# Altium footprint library K71.PcbLib: 32 footprints (part 1 of 2)
Each footprint in its own frame and in the unit in brackets; x right, y up, seen from the top. Pads: shape width x height; smd on the part's side, far side on the other; paste and mask are expansions set on the pad; w line width, h text height; cw(c..) or ccw(c..) is an arc to the next point about the centre after c.
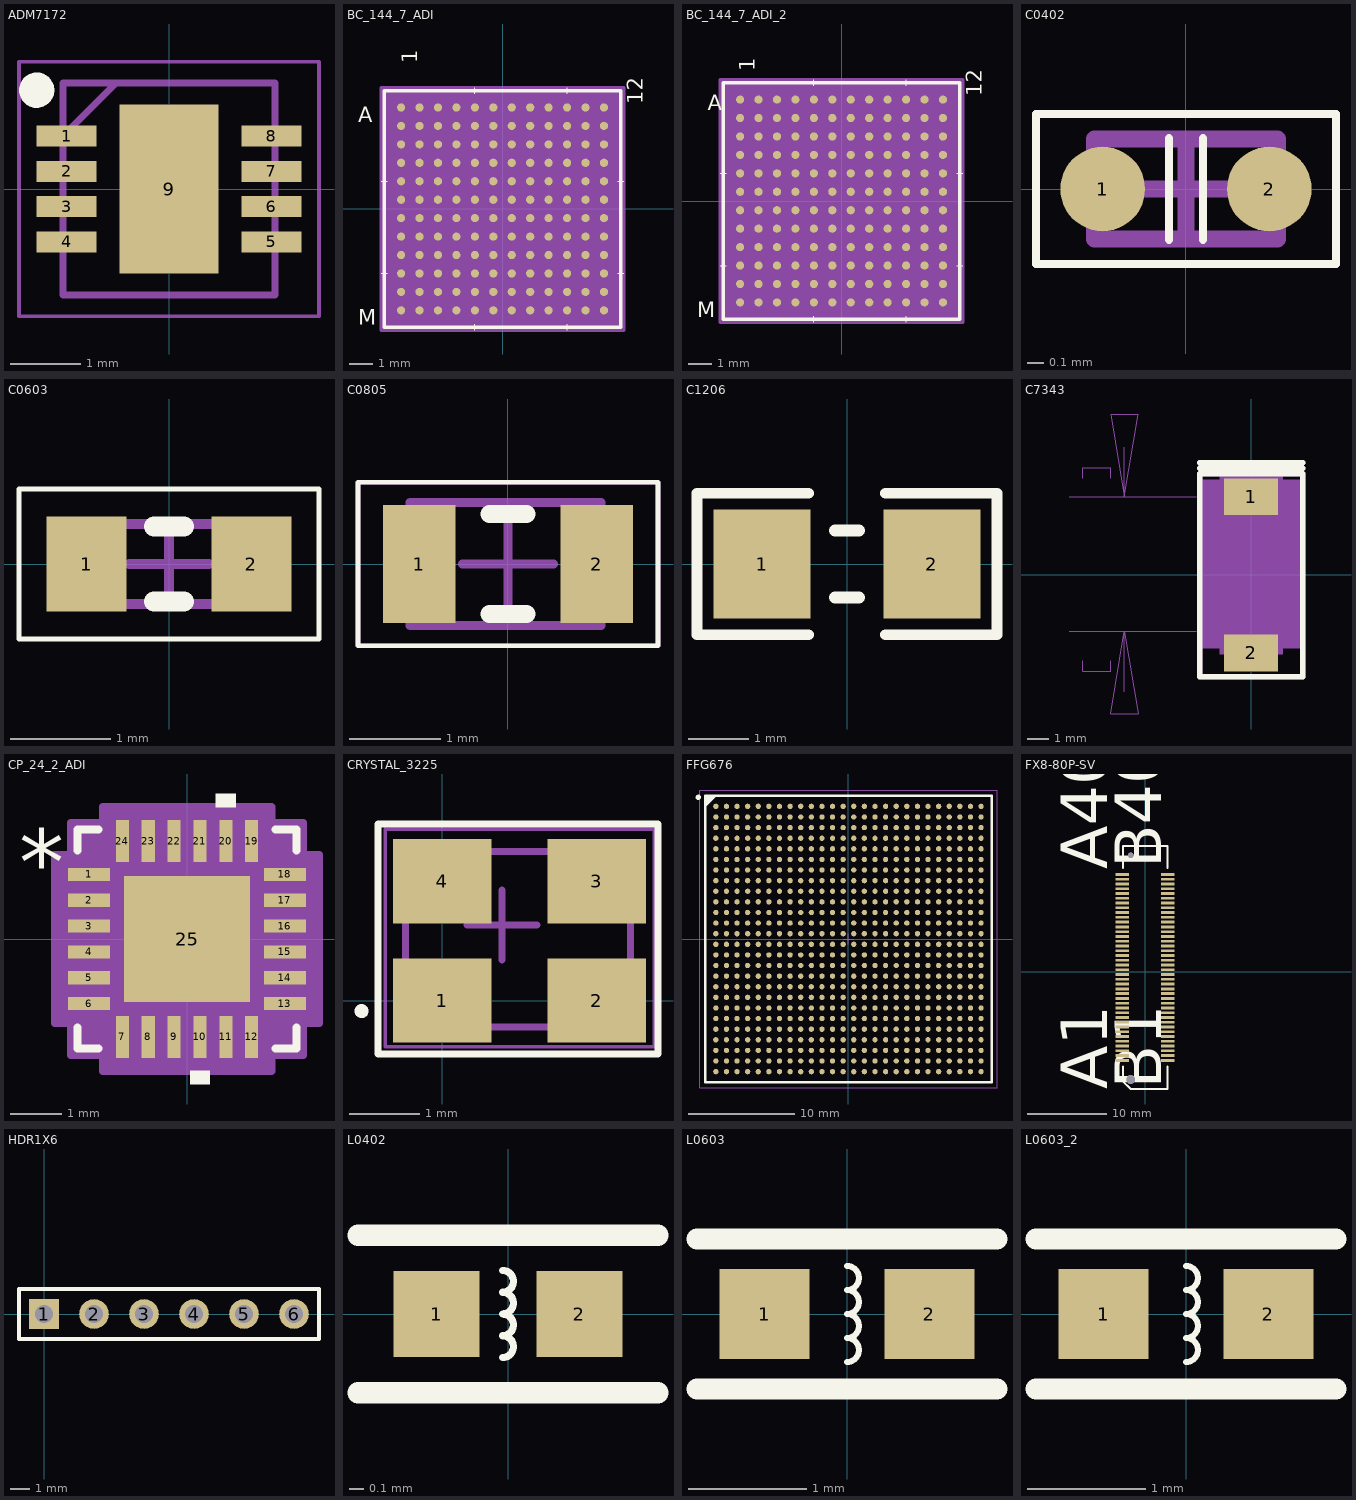
[diagram p0: the footprints below, top view; thin cyan lines are the x and y axes]

## ADM7172 [mm]
pads (9):
  rect 0.85x0.3 smd: 1(-1.45,0.75) 2(-1.45,0.25) 3(-1.45,-0.25) 4(-1.45,-0.75) 5(1.45,-0.75) 6(1.45,-0.25) 7(1.45,0.25) 8(1.45,0.75)
  rect 1.4x2.4 smd: 9(0,0)
Top Overlay:
  circle w0.25: c-1.875,1.4 r0.125
Mechanical 13:
  lines w0.1: -1.5,0.75 -0.75,1.5 ; -1.5,-1.5 -1.5,1.5 1.5,1.5 1.5,-1.5 -1.5,-1.5
Mechanical 15:
  lines w0.05: -2.125,-1.8 -2.125,1.8 2.125,1.8 2.125,-1.8 -2.125,-1.8
3D body "ADM7172ACPZ-3.3-R7.stp": height 0.8, standoff 0, extent -1.55,-1.5 1.55,1.5

## BC_144_7_ADI [mm]
pads (144):
  round 0.356 smd: A1(-4.4,4.4) A2(-3.6,4.4) A3(-2.8,4.4) A4(-2,4.4) A5(-1.2,4.4) A6(-0.4,4.4) A7(0.4,4.4) A8(1.2,4.4) A9(2,4.4) A10(2.8,4.4) A11(3.6,4.4) A12(4.4,4.4) B1(-4.4,3.6) B2(-3.6,3.6) B3(-2.8,3.6) B4(-2,3.6) B5(-1.2,3.6) B6(-0.4,3.6) B7(0.4,3.6) B8(1.2,3.6) B9(2,3.6) B10(2.8,3.6) B11(3.6,3.6) B12(4.4,3.6) C1(-4.4,2.8) C2(-3.6,2.8) C3(-2.8,2.8) C4(-2,2.8) C5(-1.2,2.8) C6(-0.4,2.8) C7(0.4,2.8) C8(1.2,2.8) C9(2,2.8) C10(2.8,2.8) C11(3.6,2.8) C12(4.4,2.8) D1(-4.4,2) D2(-3.6,2) D3(-2.8,2) D4(-2,2) D5(-1.2,2) D6(-0.4,2) D7(0.4,2) D8(1.2,2) D9(2,2) D10(2.8,2) D11(3.6,2) D12(4.4,2) E1(-4.4,1.2) E2(-3.6,1.2) E3(-2.8,1.2) E4(-2,1.2) E5(-1.2,1.2) E6(-0.4,1.2) E7(0.4,1.2) E8(1.2,1.2) E9(2,1.2) E10(2.8,1.2) E11(3.6,1.2) E12(4.4,1.2) F1(-4.4,0.4) F2(-3.6,0.4) F3(-2.8,0.4) F4(-2,0.4) F5(-1.2,0.4) F6(-0.4,0.4) F7(0.4,0.4) F8(1.2,0.4) F9(2,0.4) F10(2.8,0.4) F11(3.6,0.4) F12(4.4,0.4) G1(-4.4,-0.4) G2(-3.6,-0.4) G3(-2.8,-0.4) G4(-2,-0.4) G5(-1.2,-0.4) G6(-0.4,-0.4) G7(0.4,-0.4) G8(1.2,-0.4) G9(2,-0.4) G10(2.8,-0.4) G11(3.6,-0.4) G12(4.4,-0.4) H1(-4.4,-1.2) H2(-3.6,-1.2) H3(-2.8,-1.2) H4(-2,-1.2) H5(-1.2,-1.2) H6(-0.4,-1.2) H7(0.4,-1.2) H8(1.2,-1.2) H9(2,-1.2) H10(2.8,-1.2) H11(3.6,-1.2) H12(4.4,-1.2) J1(-4.4,-2) J2(-3.6,-2) J3(-2.8,-2) J4(-2,-2) J5(-1.2,-2) J6(-0.4,-2) J7(0.4,-2) J8(1.2,-2) J9(2,-2) J10(2.8,-2) J11(3.6,-2) J12(4.4,-2) K1(-4.4,-2.8) K2(-3.6,-2.8) K3(-2.8,-2.8) K4(-2,-2.8) K5(-1.2,-2.8) K6(-0.4,-2.8) K7(0.4,-2.8) K8(1.2,-2.8) K9(2,-2.8) K10(2.8,-2.8) K11(3.6,-2.8) K12(4.4,-2.8) L1(-4.4,-3.6) L2(-3.6,-3.6) L3(-2.8,-3.6) L4(-2,-3.6) L5(-1.2,-3.6) L6(-0.4,-3.6) L7(0.4,-3.6) L8(1.2,-3.6) L9(2,-3.6) L10(2.8,-3.6) L11(3.6,-3.6) L12(4.4,-3.6) M1(-4.4,-4.4) M2(-3.6,-4.4) M3(-2.8,-4.4) M4(-2,-4.4) M5(-1.2,-4.4) M6(-0.4,-4.4) M7(0.4,-4.4) M8(1.2,-4.4) M9(2,-4.4) M10(2.8,-4.4) M11(3.6,-4.4) M12(4.4,-4.4)
Top Overlay:
  lines w0.025: -5.254,-2.8 -5,-2.8 ; -5.254,1.2 -5,1.2 ; -1.2,-5.254 -1.2,-5 ; -1.2,5 -1.2,5.254 ; 2.8,-5.254 2.8,-5 ; 2.8,5 2.8,5.254 ; 5,-2.8 5.254,-2.8 ; 5,1.2 5.254,1.2
  lines w0.152: -5.127,-5.127 5.127,-5.127 5.127,5.127 -5.127,5.127 -5.127,-5.127
  text "A" at -6.27,3.765 h0.66
  text "M" at -6.27,-5.035 h0.66
  text "1" at -3.697,6.322 h0.66
  text "12" at 6.084,4.539 h0.66
Bottom Overlay:
  text "A" at -5.635,3.765 h0.66
  text "M" at -5.635,-5.035 h0.66
  text "1" at -5.035,5.635 h0.66
  text "12" at 4.981,5.722 h0.66
Mechanical 13:
  lines w0.025: -5,4.6 -4.6,5 ; -5,-5 5,-5 5,5 -5,5 -5,-5
  text "A" at -6.27,3.765 h0.66
  text "M" at -6.27,-5.035 h0.66
  text "1" at -3.765,5.635 h0.66
  text "12" at 5.035,5.635 h0.66
Mechanical 15:
  region: 5.254,-5.254 -5.254,-5.254 -5.254,5.254 5.254,5.254
  lines w0.152: -5.254,-5.254 -5.254,5.254 5.254,5.254 5.254,-5.254 -5.254,-5.254
3D body "BC_144_7_ADI.step": height 1.7, standoff 0, extent -5,-5 5,5

## BC_144_7_ADI_2 [mm]
pads (144):
  round 0.356 smd: A1(-4.4,4.4) A2(-3.6,4.4) A3(-2.8,4.4) A4(-2,4.4) A5(-1.2,4.4) A6(-0.4,4.4) A7(0.4,4.4) A8(1.2,4.4) A9(2,4.4) A10(2.8,4.4) A11(3.6,4.4) A12(4.4,4.4) B1(-4.4,3.6) B2(-3.6,3.6) B3(-2.8,3.6) B4(-2,3.6) B5(-1.2,3.6) B6(-0.4,3.6) B7(0.4,3.6) B8(1.2,3.6) B9(2,3.6) B10(2.8,3.6) B11(3.6,3.6) B12(4.4,3.6) C1(-4.4,2.8) C2(-3.6,2.8) C3(-2.8,2.8) C4(-2,2.8) C5(-1.2,2.8) C6(-0.4,2.8) C7(0.4,2.8) C8(1.2,2.8) C9(2,2.8) C10(2.8,2.8) C11(3.6,2.8) C12(4.4,2.8) D1(-4.4,2) D2(-3.6,2) D3(-2.8,2) D4(-2,2) D5(-1.2,2) D6(-0.4,2) D7(0.4,2) D8(1.2,2) D9(2,2) D10(2.8,2) D11(3.6,2) D12(4.4,2) E1(-4.4,1.2) E2(-3.6,1.2) E3(-2.8,1.2) E4(-2,1.2) E5(-1.2,1.2) E6(-0.4,1.2) E7(0.4,1.2) E8(1.2,1.2) E9(2,1.2) E10(2.8,1.2) E11(3.6,1.2) E12(4.4,1.2) F1(-4.4,0.4) F2(-3.6,0.4) F3(-2.8,0.4) F4(-2,0.4) F5(-1.2,0.4) F6(-0.4,0.4) F7(0.4,0.4) F8(1.2,0.4) F9(2,0.4) F10(2.8,0.4) F11(3.6,0.4) F12(4.4,0.4) G1(-4.4,-0.4) G2(-3.6,-0.4) G3(-2.8,-0.4) G4(-2,-0.4) G5(-1.2,-0.4) G6(-0.4,-0.4) G7(0.4,-0.4) G8(1.2,-0.4) G9(2,-0.4) G10(2.8,-0.4) G11(3.6,-0.4) G12(4.4,-0.4) H1(-4.4,-1.2) H2(-3.6,-1.2) H3(-2.8,-1.2) H4(-2,-1.2) H5(-1.2,-1.2) H6(-0.4,-1.2) H7(0.4,-1.2) H8(1.2,-1.2) H9(2,-1.2) H10(2.8,-1.2) H11(3.6,-1.2) H12(4.4,-1.2) J1(-4.4,-2) J2(-3.6,-2) J3(-2.8,-2) J4(-2,-2) J5(-1.2,-2) J6(-0.4,-2) J7(0.4,-2) J8(1.2,-2) J9(2,-2) J10(2.8,-2) J11(3.6,-2) J12(4.4,-2) K1(-4.4,-2.8) K2(-3.6,-2.8) K3(-2.8,-2.8) K4(-2,-2.8) K5(-1.2,-2.8) K6(-0.4,-2.8) K7(0.4,-2.8) K8(1.2,-2.8) K9(2,-2.8) K10(2.8,-2.8) K11(3.6,-2.8) K12(4.4,-2.8) L1(-4.4,-3.6) L2(-3.6,-3.6) L3(-2.8,-3.6) L4(-2,-3.6) L5(-1.2,-3.6) L6(-0.4,-3.6) L7(0.4,-3.6) L8(1.2,-3.6) L9(2,-3.6) L10(2.8,-3.6) L11(3.6,-3.6) L12(4.4,-3.6) M1(-4.4,-4.4) M2(-3.6,-4.4) M3(-2.8,-4.4) M4(-2,-4.4) M5(-1.2,-4.4) M6(-0.4,-4.4) M7(0.4,-4.4) M8(1.2,-4.4) M9(2,-4.4) M10(2.8,-4.4) M11(3.6,-4.4) M12(4.4,-4.4)
Top Overlay:
  lines w0.025: -5.254,-2.8 -5,-2.8 ; -5.254,1.2 -5,1.2 ; -1.2,-5.254 -1.2,-5 ; -1.2,5 -1.2,5.254 ; 2.8,-5.254 2.8,-5 ; 2.8,5 2.8,5.254 ; 5,-2.8 5.254,-2.8 ; 5,1.2 5.254,1.2
  lines w0.152: -5.127,-5.127 -5.127,5.127 5.127,5.127 5.127,-5.127 -5.127,-5.127
  text "12" at 6.084,4.539 h0.66
  text "1" at -3.765,5.635 h0.66
  text "M" at -6.27,-5.035 h0.66
  text "A" at -5.814,3.937 h0.66
Bottom Overlay:
  text "12" at 4.981,5.722 h0.66
  text "1" at -5.035,5.635 h0.66
  text "M" at -5.635,-5.035 h0.66
  text "A" at -5.635,3.765 h0.66
Mechanical 13:
  lines w0.025: -5,4.6 -4.6,5 ; -5,-5 -5,5 5,5 5,-5 -5,-5
  text "12" at 5.035,5.635 h0.66
  text "1" at -3.765,5.635 h0.66
  text "M" at -6.27,-5.035 h0.66
  text "A" at -6.27,3.765 h0.66
Mechanical 15:
  region: 5.254,-5.254 -5.254,-5.254 -5.254,5.254 5.254,5.254
  lines w0.152: -5.254,-5.254 5.254,-5.254 5.254,5.254 -5.254,5.254 -5.254,-5.254
3D body "BC_144_7_ADI.step": height 1.7, standoff 0, extent -5,-5 5,5

## C0402 [mil]
height 11.81
pads (2):
  round 20 smd: 1(-19.68,0) 2(19.68,0)
Top Overlay:
  lines w1.97: -4,-12 -4,0 -4,12 ; 4,-12 4,0 4,12 ; -35.43,-17.72 -35.43,17.72 35.43,17.72 35.43,-17.72 -35.43,-17.72
Mechanical 13:
  lines w3.94: -21.65,-11.81 21.65,-11.81 21.65,11.81 -21.65,11.81 -21.65,-11.81
Mechanical 15:
  lines w1.97: -35.43,-17.72 -35.43,17.72 35.43,17.72 35.43,-17.72 -35.43,-17.72
  lines w3.94: -9.84,0 9.84,0 ; 0,-9.84 0,9.84
3D body "C 0402.STEP": height 20.68, standoff 0.21, extent -19.68,-10.23 19.69,10.24

## C0603 [mm]
height 1.2
pads (2):
  rect 0.8x0.95 smd: 1(-0.825,0) 2(0.825,0)
Top Overlay:
  lines w0.05: -1.5,-0.75 1.5,-0.75 1.5,0.75 -1.5,0.75 -1.5,-0.75
  lines w0.2: -0.152,-0.375 0.152,-0.375 ; -0.152,0.375 0.152,0.375
Mechanical 13:
  lines w0.1: -0.8,-0.4 0.8,-0.4 0.8,0.4 -0.8,0.4 -0.8,-0.4
Mechanical 15:
  lines w0.1: -0.4,0 0.4,0 ; 0,-0.4 0,0.4
3D body "C 0603.STEP": height 0.81, standoff -0.01, extent -0.8,-0.41 0.8,0.41

## C0805 [mm]
height 0.5
pads (2):
  rect 0.8x1.3 smd: 1(-0.975,0) 2(0.975,0)
Top Overlay:
  lines w0.05: -1.65,-0.9 -1.65,0.9 1.65,0.9 1.65,-0.9 -1.65,-0.9
  lines w0.2: -0.2,-0.55 0.2,-0.55 ; -0.2,0.55 0.2,0.55
Mechanical 13:
  lines w0.1: -1.075,-0.675 1.025,-0.675 1.025,0.675 -1.075,0.675 -1.075,-0.675
Mechanical 15:
  lines w0.05: -1.65,-0.9 -1.65,0.9 1.65,0.9 1.65,-0.9 -1.65,-0.9
  lines w0.1: -0.5,0 0.5,0 ; 0,-0.5 0,0.5
3D body "C 0805.STEP": height 0.51, standoff -0.01, extent -1,-0.61 1,0.61

## C1206 [mm]
pads (2):
  rect 1.6x1.8 smd: 1(-1.4,0) 2(1.4,0)
Top Overlay:
  lines w0.178: -0.635,-1.168 -2.476,-1.168 -2.476,1.168 -0.635,1.168 ; 0.635,-1.168 2.476,-1.168 2.476,1.168 0.635,1.168
  lines w0.2: -0.2,-0.55 0.2,-0.55 ; -0.2,0.55 0.2,0.55
Mechanical 14:
  text "1" at -1.404,0 h0.64
  text "2" at 1.596,0 h0.64
3D body "C 1206.STEP": height 1.21, standoff -0.01, extent -1.6,-0.81 1.6,0.81

## C7343 [mil] "C7343"
pads (2):
  rect 98x67 smd: 1(0,141.66) 2(0,-141.66)
Top Overlay:
  lines w9.84: -93.58,-143.79 -93.58,-184.38 93.58,-184.38 93.58,-143.79
  lines w10: -93.58,-143.79 -93.58,183.16 ; -93.58,193.16 93.58,193.16 ; -93.58,203.16 93.58,203.16 ; 93.58,-143.79 93.58,183.16 ; -93.58,183.16 93.58,183.16 ; -93.58,183.16 93.58,183.16
Mechanical 5:
  lines w9.84: -93.58,-143.79 -93.58,-184.38 93.58,-184.38 93.58,-143.79
  lines w10: -93.58,-143.79 -93.58,183.16 ; -93.58,193.16 93.58,193.16 ; -93.58,203.16 93.58,203.16 ; 93.58,-143.79 93.58,183.16 ; -93.58,183.16 93.58,183.16 ; -93.58,183.16 93.58,183.16
  text "CT1" at -30,229.16 h25
Mechanical 13:
  lines w1: -330,-102.3 -100,-102.3 ; -330,141.66 -100,141.66 ; -305,-155.81 -305,-174.81 -255,-174.81 -255,-155.81 ; -305,175.19 -305,194.19 -255,194.19 -255,175.19 ; -230,-212.31 -230,-102.3 ; -230,231.69 -230,141.66 ; -230,-102.3 -255,-252.29 -205,-252.29 -230,-102.3 ; -230,141.66 -205,291.67 -255,291.67 -230,141.66
  text "6.2" at -205,79.69 h25
  text "243.97" at -305,156.19 h25
Mechanical 14:
  text "2" at -10,-141.66 h25
  text "1" at -10,141.66 h25
Mechanical 16:
  region: -88.58,167.32 -88.58,-127.95 88.58,-127.95 88.58,167.32
  pour cut-out: 57,183.16 57,172.32 93.58,172.32 93.58,-132.96 57,-132.96 57,-143.79 -57,-143.79 -57,-132.96 -93.58,-132.96 -93.58,172.32 -57,172.32 -57,183.16
  lines w1: -88.58,-127.95 88.58,-127.95 88.58,167.32 -88.58,167.32 -88.58,-127.95
Mechanical 17:
  text ".Designator" at -30,3.02 h25
3D body: height 150, standoff 0, extent -88.58,-127.95 88.58,167.32

## CP_24_2_ADI [mil]
pads (25):
  rect 32x10 smd paste+0 mask+0: 1(-74.5,49.21) 2(-74.5,29.53) 3(-74.5,9.84) 4(-74.5,-9.84) 5(-74.5,-29.53) 6(-74.5,-49.21) 13(74.5,-49.21) 14(74.5,-29.53) 15(74.5,-9.84) 16(74.5,9.84) 17(74.5,29.53) 18(74.5,49.21)
  rect 10x32 smd paste+0 mask+0: 7(-49.21,-74.5) 8(-29.53,-74.5) 9(-9.84,-74.5) 10(9.84,-74.5) 11(29.53,-74.5) 12(49.21,-74.5) 19(49.21,74.5) 20(29.53,74.5) 21(9.84,74.5) 22(-9.84,74.5) 23(-29.53,74.5) 24(-49.21,74.5)
  rect 96x96 smd paste+0 mask+0: 25(0,0)
Top Overlay:
  region: 17.34,-100.5 2.34,-100.5 2.34,-110.5 17.34,-110.5
  region: 37.03,100.5 22.03,100.5 22.03,110.5 37.03,110.5
  lines w6: -83.5,-67.31 -83.5,-83.5 -67.31,-83.5 ; -83.5,67.31 -83.5,83.5 -67.31,83.5 ; 67.31,-83.5 83.5,-83.5 83.5,-67.31 ; 67.31,83.5 83.5,83.5 83.5,67.31
  text "*" at -128,34.06 h50
Mechanical 13:
  lines w1: -78.5,28.5 -28.5,78.5 ; -78.5,-78.5 78.5,-78.5 78.5,78.5 -78.5,78.5 -78.5,-78.5 ; -78.5,-55.21 -78.5,-43.21 -78.5,-55.21 ; -78.5,-35.53 -78.5,-23.53 -78.5,-35.53 ; -78.5,-15.84 -78.5,-3.84 -78.5,-15.84 ; -78.5,3.84 -78.5,15.84 -78.5,3.84 ; -78.5,23.53 -78.5,35.53 -78.5,23.53 ; -78.5,43.21 -78.5,55.21 -78.5,43.21 ; -55.21,-78.5 -43.21,-78.5 -55.21,-78.5 ; -55.21,78.5 -43.21,78.5 -55.21,78.5 ; -35.53,-78.5 -23.53,-78.5 -35.53,-78.5 ; -35.53,78.5 -23.53,78.5 -35.53,78.5 ; -15.84,-78.5 -3.84,-78.5 -15.84,-78.5 ; -15.84,78.5 -3.84,78.5 -15.84,78.5 ; 3.84,-78.5 15.84,-78.5 3.84,-78.5 ; 3.84,78.5 15.84,78.5 3.84,78.5 ; 23.53,-78.5 35.53,-78.5 23.53,-78.5 ; 23.53,78.5 35.53,78.5 23.53,78.5 ; 43.21,-78.5 55.21,-78.5 43.21,-78.5 ; 43.21,78.5 55.21,78.5 43.21,78.5 ; 78.5,-55.21 78.5,-43.21 78.5,-55.21 ; 78.5,-35.53 78.5,-23.53 78.5,-35.53 ; 78.5,-15.84 78.5,-3.84 78.5,-15.84 ; 78.5,3.84 78.5,15.84 78.5,3.84 ; 78.5,23.53 78.5,35.53 78.5,23.53 ; 78.5,43.21 78.5,55.21 78.5,43.21
  text "*" at -71,34.06 h50
Mechanical 15:
  region: -64.21,-88.5 -88.5,-88.5 -88.5,-64.21 -100.5,-64.21 -100.5,64.21 -88.5,64.21 -88.5,88.5 -64.21,88.5 -64.21,100.5 64.21,100.5 64.21,88.5 88.5,88.5 88.5,64.21 100.5,64.21 100.5,-64.21 88.5,-64.21 88.5,-88.5 64.21,-88.5 64.21,-100.5 -64.21,-100.5
  lines w6: -100.5,-64.21 -88.5,-64.21 -88.5,-88.5 -64.21,-88.5 -64.21,-100.5 64.21,-100.5 64.21,-88.5 88.5,-88.5 88.5,-64.21 100.5,-64.21 100.5,64.21 88.5,64.21 88.5,88.5 64.21,88.5 64.21,100.5 -64.21,100.5 -64.21,88.5 -88.5,88.5 -88.5,64.21 -100.5,64.21 -100.5,-64.21
3D body "CP_24_2_ADI.step": height 39.09, standoff 0, extent -78.5,-78.5 78.5,78.5

## CRYSTAL_3225 [mm]
pads (4):
  rect 1.4x1.2 smd: 1(0,0) 2(2.2,0) 3(2.2,1.7) 4(0,1.7)
Top Overlay:
  circle w0.1: c-1.15,-0.15 r0.05
  lines w0.1: -0.914,-0.762 3.073,-0.762 3.073,2.515 -0.914,2.515 -0.914,-0.762
Mechanical 13:
  lines w0.1: -0.521,-0.379 -0.521,2.121 2.679,2.121 2.679,-0.379 -0.521,-0.379
Mechanical 15:
  lines w0.05: -0.813,-0.66 -0.813,2.438 3.023,2.438 3.023,-0.66 -0.813,-0.66
  lines w0.1: 0.35,1.075 1.35,1.075 ; 0.85,0.575 0.85,1.575
3D body: height 0.7, standoff 0.1, extent -0.508,-0.412 2.692,2.088

## FFG676 [mm] "BGA, 676-Balls, Body 27x27mm, Pitch 1.0mm"
height 3.37
pads (676):
  round 0.5 smd: A1(-12.5,12.5) A2(-11.5,12.5) A3(-10.5,12.5) A4(-9.5,12.5) A5(-8.5,12.5) A6(-7.5,12.5) A7(-6.5,12.5) A8(-5.5,12.5) A9(-4.5,12.5) A10(-3.5,12.5) A11(-2.5,12.5) A12(-1.5,12.5) A13(-0.5,12.5) A14(0.5,12.5) A15(1.5,12.5) A16(2.5,12.5) A17(3.5,12.5) A18(4.5,12.5) A19(5.5,12.5) A20(6.5,12.5) A21(7.5,12.5) A22(8.5,12.5) A23(9.5,12.5) A24(10.5,12.5) A25(11.5,12.5) A26(12.5,12.5) AA1(-12.5,-7.5) AA2(-11.5,-7.5) AA3(-10.5,-7.5) AA4(-9.5,-7.5) AA5(-8.5,-7.5) AA6(-7.5,-7.5) AA7(-6.5,-7.5) AA8(-5.5,-7.5) AA9(-4.5,-7.5) AA10(-3.5,-7.5) AA11(-2.5,-7.5) AA12(-1.5,-7.5) AA13(-0.5,-7.5) AA14(0.5,-7.5) AA15(1.5,-7.5) AA16(2.5,-7.5) AA17(3.5,-7.5) AA18(4.5,-7.5) AA19(5.5,-7.5) AA20(6.5,-7.5) AA21(7.5,-7.5) AA22(8.5,-7.5) AA23(9.5,-7.5) AA24(10.5,-7.5) AA25(11.5,-7.5) AA26(12.5,-7.5) AB1(-12.5,-8.5) AB2(-11.5,-8.5) AB3(-10.5,-8.5) AB4(-9.5,-8.5) AB5(-8.5,-8.5) AB6(-7.5,-8.5) AB7(-6.5,-8.5) AB8(-5.5,-8.5) AB9(-4.5,-8.5) AB10(-3.5,-8.5) AB11(-2.5,-8.5) AB12(-1.5,-8.5) AB13(-0.5,-8.5) AB14(0.5,-8.5) AB15(1.5,-8.5) AB16(2.5,-8.5) AB17(3.5,-8.5) AB18(4.5,-8.5) AB19(5.5,-8.5) AB20(6.5,-8.5) AB21(7.5,-8.5) AB22(8.5,-8.5) AB23(9.5,-8.5) AB24(10.5,-8.5) AB25(11.5,-8.5) AB26(12.5,-8.5) AC1(-12.5,-9.5) AC2(-11.5,-9.5) AC3(-10.5,-9.5) AC4(-9.5,-9.5) AC5(-8.5,-9.5) AC6(-7.5,-9.5) AC7(-6.5,-9.5) AC8(-5.5,-9.5) AC9(-4.5,-9.5) AC10(-3.5,-9.5) AC11(-2.5,-9.5) AC12(-1.5,-9.5) AC13(-0.5,-9.5) AC14(0.5,-9.5) AC15(1.5,-9.5) AC16(2.5,-9.5) AC17(3.5,-9.5) AC18(4.5,-9.5) AC19(5.5,-9.5) AC20(6.5,-9.5) AC21(7.5,-9.5) AC22(8.5,-9.5) AC23(9.5,-9.5) AC24(10.5,-9.5) AC25(11.5,-9.5) AC26(12.5,-9.5) AD1(-12.5,-10.5) AD2(-11.5,-10.5) AD3(-10.5,-10.5) AD4(-9.5,-10.5) AD5(-8.5,-10.5) AD6(-7.5,-10.5) AD7(-6.5,-10.5) AD8(-5.5,-10.5) AD9(-4.5,-10.5) AD10(-3.5,-10.5) AD11(-2.5,-10.5) AD12(-1.5,-10.5) AD13(-0.5,-10.5) AD14(0.5,-10.5) AD15(1.5,-10.5) AD16(2.5,-10.5) AD17(3.5,-10.5) AD18(4.5,-10.5) AD19(5.5,-10.5) AD20(6.5,-10.5) AD21(7.5,-10.5) AD22(8.5,-10.5) AD23(9.5,-10.5) AD24(10.5,-10.5) AD25(11.5,-10.5) AD26(12.5,-10.5) AE1(-12.5,-11.5) AE2(-11.5,-11.5) AE3(-10.5,-11.5) AE4(-9.5,-11.5) AE5(-8.5,-11.5) AE6(-7.5,-11.5) AE7(-6.5,-11.5) AE8(-5.5,-11.5) AE9(-4.5,-11.5) AE10(-3.5,-11.5) AE11(-2.5,-11.5) AE12(-1.5,-11.5) AE13(-0.5,-11.5) AE14(0.5,-11.5) AE15(1.5,-11.5) AE16(2.5,-11.5) AE17(3.5,-11.5) AE18(4.5,-11.5) AE19(5.5,-11.5) AE20(6.5,-11.5) AE21(7.5,-11.5) AE22(8.5,-11.5) AE23(9.5,-11.5) AE24(10.5,-11.5) AE25(11.5,-11.5) AE26(12.5,-11.5) AF1(-12.5,-12.5) AF2(-11.5,-12.5) AF3(-10.5,-12.5) AF4(-9.5,-12.5) AF5(-8.5,-12.5) AF6(-7.5,-12.5) AF7(-6.5,-12.5) AF8(-5.5,-12.5) AF9(-4.5,-12.5) AF10(-3.5,-12.5) AF11(-2.5,-12.5) AF12(-1.5,-12.5) AF13(-0.5,-12.5) AF14(0.5,-12.5) AF15(1.5,-12.5) AF16(2.5,-12.5) AF17(3.5,-12.5) AF18(4.5,-12.5) AF19(5.5,-12.5) AF20(6.5,-12.5) AF21(7.5,-12.5) AF22(8.5,-12.5) AF23(9.5,-12.5) AF24(10.5,-12.5) AF25(11.5,-12.5) AF26(12.5,-12.5) B1(-12.5,11.5) B2(-11.5,11.5) B3(-10.5,11.5) B4(-9.5,11.5) B5(-8.5,11.5) B6(-7.5,11.5) B7(-6.5,11.5) B8(-5.5,11.5) B9(-4.5,11.5) B10(-3.5,11.5) B11(-2.5,11.5) B12(-1.5,11.5) B13(-0.5,11.5) B14(0.5,11.5) B15(1.5,11.5) B16(2.5,11.5) B17(3.5,11.5) B18(4.5,11.5) B19(5.5,11.5) B20(6.5,11.5) B21(7.5,11.5) B22(8.5,11.5) B23(9.5,11.5) B24(10.5,11.5) B25(11.5,11.5) B26(12.5,11.5) C1(-12.5,10.5) C2(-11.5,10.5) C3(-10.5,10.5) C4(-9.5,10.5) C5(-8.5,10.5) C6(-7.5,10.5) C7(-6.5,10.5) C8(-5.5,10.5) C9(-4.5,10.5) C10(-3.5,10.5) C11(-2.5,10.5) C12(-1.5,10.5) C13(-0.5,10.5) C14(0.5,10.5) C15(1.5,10.5) C16(2.5,10.5) C17(3.5,10.5) C18(4.5,10.5) C19(5.5,10.5) C20(6.5,10.5) C21(7.5,10.5) C22(8.5,10.5) C23(9.5,10.5) C24(10.5,10.5) C25(11.5,10.5) C26(12.5,10.5) D1(-12.5,9.5) D2(-11.5,9.5) D3(-10.5,9.5) D4(-9.5,9.5) D5(-8.5,9.5) D6(-7.5,9.5) D7(-6.5,9.5) D8(-5.5,9.5) D9(-4.5,9.5) D10(-3.5,9.5) D11(-2.5,9.5) D12(-1.5,9.5) D13(-0.5,9.5) D14(0.5,9.5) D15(1.5,9.5) D16(2.5,9.5) D17(3.5,9.5) D18(4.5,9.5) D19(5.5,9.5) D20(6.5,9.5) D21(7.5,9.5) D22(8.5,9.5) D23(9.5,9.5) D24(10.5,9.5) D25(11.5,9.5) D26(12.5,9.5) E1(-12.5,8.5) E2(-11.5,8.5) E3(-10.5,8.5) E4(-9.5,8.5) E5(-8.5,8.5) E6(-7.5,8.5) E7(-6.5,8.5) E8(-5.5,8.5) E9(-4.5,8.5) E10(-3.5,8.5) E11(-2.5,8.5) E12(-1.5,8.5) E13(-0.5,8.5) E14(0.5,8.5) E15(1.5,8.5) E16(2.5,8.5) E17(3.5,8.5) E18(4.5,8.5) E19(5.5,8.5) E20(6.5,8.5) E21(7.5,8.5) E22(8.5,8.5) E23(9.5,8.5) E24(10.5,8.5) E25(11.5,8.5) E26(12.5,8.5) F1(-12.5,7.5) F2(-11.5,7.5) F3(-10.5,7.5) F4(-9.5,7.5) F5(-8.5,7.5) F6(-7.5,7.5) F7(-6.5,7.5) F8(-5.5,7.5) F9(-4.5,7.5) F10(-3.5,7.5) F11(-2.5,7.5) F12(-1.5,7.5) F13(-0.5,7.5) F14(0.5,7.5) F15(1.5,7.5) F16(2.5,7.5) F17(3.5,7.5) F18(4.5,7.5) F19(5.5,7.5) F20(6.5,7.5) F21(7.5,7.5) F22(8.5,7.5) F23(9.5,7.5) F24(10.5,7.5) F25(11.5,7.5) F26(12.5,7.5) G1(-12.5,6.5) G2(-11.5,6.5) G3(-10.5,6.5) G4(-9.5,6.5) G5(-8.5,6.5) G6(-7.5,6.5) G7(-6.5,6.5) G8(-5.5,6.5) G9(-4.5,6.5) G10(-3.5,6.5) G11(-2.5,6.5) G12(-1.5,6.5) G13(-0.5,6.5) G14(0.5,6.5) G15(1.5,6.5) G16(2.5,6.5) G17(3.5,6.5) G18(4.5,6.5) G19(5.5,6.5) G20(6.5,6.5) G21(7.5,6.5) G22(8.5,6.5) G23(9.5,6.5) G24(10.5,6.5) G25(11.5,6.5) G26(12.5,6.5) H1(-12.5,5.5) H2(-11.5,5.5) H3(-10.5,5.5) H4(-9.5,5.5) H5(-8.5,5.5) H6(-7.5,5.5) H7(-6.5,5.5) H8(-5.5,5.5) H9(-4.5,5.5) H10(-3.5,5.5) H11(-2.5,5.5) H12(-1.5,5.5) H13(-0.5,5.5) H14(0.5,5.5) H15(1.5,5.5) H16(2.5,5.5) H17(3.5,5.5) H18(4.5,5.5) H19(5.5,5.5) H20(6.5,5.5) H21(7.5,5.5) H22(8.5,5.5) H23(9.5,5.5) H24(10.5,5.5) H25(11.5,5.5) H26(12.5,5.5) J1(-12.5,4.5) J2(-11.5,4.5) J3(-10.5,4.5) J4(-9.5,4.5) J5(-8.5,4.5) J6(-7.5,4.5) J7(-6.5,4.5) J8(-5.5,4.5) J9(-4.5,4.5) J10(-3.5,4.5) J11(-2.5,4.5) J12(-1.5,4.5) J13(-0.5,4.5) J14(0.5,4.5) J15(1.5,4.5) J16(2.5,4.5) J17(3.5,4.5) J18(4.5,4.5) J19(5.5,4.5) J20(6.5,4.5) J21(7.5,4.5) J22(8.5,4.5) J23(9.5,4.5) J24(10.5,4.5) J25(11.5,4.5) J26(12.5,4.5) K1(-12.5,3.5) K2(-11.5,3.5) K3(-10.5,3.5) K4(-9.5,3.5) K5(-8.5,3.5) K6(-7.5,3.5) K7(-6.5,3.5) K8(-5.5,3.5) K9(-4.5,3.5) K10(-3.5,3.5) K11(-2.5,3.5) K12(-1.5,3.5) K13(-0.5,3.5) K14(0.5,3.5) K15(1.5,3.5) K16(2.5,3.5) K17(3.5,3.5) K18(4.5,3.5) K19(5.5,3.5) K20(6.5,3.5) K21(7.5,3.5) K22(8.5,3.5) K23(9.5,3.5) K24(10.5,3.5) K25(11.5,3.5) K26(12.5,3.5) L1(-12.5,2.5) L2(-11.5,2.5) L3(-10.5,2.5) L4(-9.5,2.5) L5(-8.5,2.5) L6(-7.5,2.5) L7(-6.5,2.5) L8(-5.5,2.5) L9(-4.5,2.5) L10(-3.5,2.5) L11(-2.5,2.5) L12(-1.5,2.5) L13(-0.5,2.5) L14(0.5,2.5) L15(1.5,2.5) L16(2.5,2.5) L17(3.5,2.5) L18(4.5,2.5) L19(5.5,2.5) L20(6.5,2.5) L21(7.5,2.5) L22(8.5,2.5) L23(9.5,2.5) L24(10.5,2.5) L25(11.5,2.5) L26(12.5,2.5) M1(-12.5,1.5) M2(-11.5,1.5) M3(-10.5,1.5) M4(-9.5,1.5) M5(-8.5,1.5) M6(-7.5,1.5) M7(-6.5,1.5) M8(-5.5,1.5) M9(-4.5,1.5) M10(-3.5,1.5) M11(-2.5,1.5) M12(-1.5,1.5) M13(-0.5,1.5) M14(0.5,1.5) M15(1.5,1.5) M16(2.5,1.5) M17(3.5,1.5) M18(4.5,1.5) M19(5.5,1.5) M20(6.5,1.5) M21(7.5,1.5) M22(8.5,1.5) M23(9.5,1.5) M24(10.5,1.5) M25(11.5,1.5) M26(12.5,1.5) N1(-12.5,0.5) N2(-11.5,0.5) N3(-10.5,0.5) N4(-9.5,0.5) N5(-8.5,0.5) N6(-7.5,0.5) N7(-6.5,0.5) N8(-5.5,0.5) N9(-4.5,0.5) N10(-3.5,0.5) N11(-2.5,0.5) N12(-1.5,0.5) N13(-0.5,0.5) N14(0.5,0.5) N15(1.5,0.5) N16(2.5,0.5) N17(3.5,0.5) N18(4.5,0.5) N19(5.5,0.5) N20(6.5,0.5) N21(7.5,0.5) N22(8.5,0.5) N23(9.5,0.5) N24(10.5,0.5) N25(11.5,0.5) N26(12.5,0.5) P1(-12.5,-0.5) P2(-11.5,-0.5) P3(-10.5,-0.5) P4(-9.5,-0.5) P5(-8.5,-0.5) P6(-7.5,-0.5) P7(-6.5,-0.5) P8(-5.5,-0.5) P9(-4.5,-0.5) P10(-3.5,-0.5) P11(-2.5,-0.5) P12(-1.5,-0.5) P13(-0.5,-0.5) P14(0.5,-0.5) P15(1.5,-0.5) P16(2.5,-0.5) P17(3.5,-0.5) P18(4.5,-0.5) P19(5.5,-0.5) P20(6.5,-0.5) P21(7.5,-0.5) P22(8.5,-0.5) P23(9.5,-0.5) P24(10.5,-0.5) P25(11.5,-0.5) P26(12.5,-0.5) R1(-12.5,-1.5) R2(-11.5,-1.5) R3(-10.5,-1.5) R4(-9.5,-1.5) R5(-8.5,-1.5) R6(-7.5,-1.5) R7(-6.5,-1.5) R8(-5.5,-1.5) R9(-4.5,-1.5) R10(-3.5,-1.5) R11(-2.5,-1.5) R12(-1.5,-1.5) R13(-0.5,-1.5) R14(0.5,-1.5) R15(1.5,-1.5) R16(2.5,-1.5) R17(3.5,-1.5) R18(4.5,-1.5) R19(5.5,-1.5) R20(6.5,-1.5) R21(7.5,-1.5) R22(8.5,-1.5) R23(9.5,-1.5) R24(10.5,-1.5) R25(11.5,-1.5) R26(12.5,-1.5) T1(-12.5,-2.5) T2(-11.5,-2.5) T3(-10.5,-2.5) T4(-9.5,-2.5) T5(-8.5,-2.5) T6(-7.5,-2.5) T7(-6.5,-2.5) T8(-5.5,-2.5) T9(-4.5,-2.5) T10(-3.5,-2.5) T11(-2.5,-2.5) T12(-1.5,-2.5) T13(-0.5,-2.5) T14(0.5,-2.5) T15(1.5,-2.5) T16(2.5,-2.5) T17(3.5,-2.5) T18(4.5,-2.5) T19(5.5,-2.5) T20(6.5,-2.5) T21(7.5,-2.5) T22(8.5,-2.5) T23(9.5,-2.5) T24(10.5,-2.5) T25(11.5,-2.5) T26(12.5,-2.5) U1(-12.5,-3.5) U2(-11.5,-3.5) U3(-10.5,-3.5) U4(-9.5,-3.5) U5(-8.5,-3.5) U6(-7.5,-3.5) U7(-6.5,-3.5) U8(-5.5,-3.5) U9(-4.5,-3.5) U10(-3.5,-3.5) U11(-2.5,-3.5) U12(-1.5,-3.5) U13(-0.5,-3.5) U14(0.5,-3.5) U15(1.5,-3.5) U16(2.5,-3.5) U17(3.5,-3.5) U18(4.5,-3.5) U19(5.5,-3.5) U20(6.5,-3.5) U21(7.5,-3.5) U22(8.5,-3.5) U23(9.5,-3.5) U24(10.5,-3.5) U25(11.5,-3.5) U26(12.5,-3.5) V1(-12.5,-4.5) V2(-11.5,-4.5) V3(-10.5,-4.5) V4(-9.5,-4.5) V5(-8.5,-4.5) V6(-7.5,-4.5) V7(-6.5,-4.5) V8(-5.5,-4.5) V9(-4.5,-4.5) V10(-3.5,-4.5) V11(-2.5,-4.5) V12(-1.5,-4.5) V13(-0.5,-4.5) V14(0.5,-4.5) V15(1.5,-4.5) V16(2.5,-4.5) V17(3.5,-4.5) V18(4.5,-4.5) V19(5.5,-4.5) V20(6.5,-4.5) V21(7.5,-4.5) V22(8.5,-4.5) V23(9.5,-4.5) V24(10.5,-4.5) V25(11.5,-4.5) V26(12.5,-4.5) W1(-12.5,-5.5) W2(-11.5,-5.5) W3(-10.5,-5.5) W4(-9.5,-5.5) W5(-8.5,-5.5) W6(-7.5,-5.5) W7(-6.5,-5.5) W8(-5.5,-5.5) W9(-4.5,-5.5) W10(-3.5,-5.5) W11(-2.5,-5.5) W12(-1.5,-5.5) W13(-0.5,-5.5) W14(0.5,-5.5) W15(1.5,-5.5) W16(2.5,-5.5) W17(3.5,-5.5) W18(4.5,-5.5) W19(5.5,-5.5) W20(6.5,-5.5) W21(7.5,-5.5) W22(8.5,-5.5) W23(9.5,-5.5) W24(10.5,-5.5) W25(11.5,-5.5) W26(12.5,-5.5) Y1(-12.5,-6.5) Y2(-11.5,-6.5) Y3(-10.5,-6.5) Y4(-9.5,-6.5) Y5(-8.5,-6.5) Y6(-7.5,-6.5) Y7(-6.5,-6.5) Y8(-5.5,-6.5) Y9(-4.5,-6.5) Y10(-3.5,-6.5) Y11(-2.5,-6.5) Y12(-1.5,-6.5) Y13(-0.5,-6.5) Y14(0.5,-6.5) Y15(1.5,-6.5) Y16(2.5,-6.5) Y17(3.5,-6.5) Y18(4.5,-6.5) Y19(5.5,-6.5) Y20(6.5,-6.5) Y21(7.5,-6.5) Y22(8.5,-6.5) Y23(9.5,-6.5) Y24(10.5,-6.5) Y25(11.5,-6.5) Y26(12.5,-6.5)
Top Overlay:
  circle w0.25: c-14.15,13.35 r0.125
  region: -12.5,13.5 -13.5,12.5 -13.5,13.5
  lines w0.2: -13.5,12.5 -12.5,13.5 ; -13.5,-13.5 13.5,-13.5 13.5,13.5 -13.5,13.5 -13.5,-13.5
Mechanical 13:
  lines w0.1: -13.5,-13.5 13.5,-13.5 13.5,13.5 -13.5,13.5 -13.5,-13.5
Mechanical 15:
  lines w0.05: -14,-14 14,-14 14,14 -14,14 -14,-14
  lines w0.1: -0.5,0 0.5,0 ; 0,-0.5 0,0.5
3D body: height 3.37, standoff 0.4, extent -13.5,-13.5 13.5,13.5

## FX8-80P-SV [mm]
pads (82):
  rect 1.7x0.35 smd: A1_1(-2.85,-11.135) A1_2(-2.85,-10.535) A1_3(-2.85,-9.935) A1_4(-2.85,-9.335) A1_5(-2.85,-8.735) A1_6(-2.85,-8.135) A1_7(-2.85,-7.535) A1_8(-2.85,-6.935) A1_9(-2.85,-6.335) A1_10(-2.85,-5.735) A1_11(-2.85,-5.135) A1_12(-2.85,-4.535) A1_13(-2.85,-3.935) A1_14(-2.85,-3.335) A1_15(-2.85,-2.735) A1_16(-2.85,-2.135) A1_17(-2.85,-1.535) A1_18(-2.85,-0.935) A1_19(-2.85,-0.335) A1_20(-2.85,0.265) A1_21(-2.85,0.865) A1_22(-2.85,1.465) A1_23(-2.85,2.065) A1_24(-2.85,2.665) A1_25(-2.85,3.265) A1_26(-2.85,3.865) A1_27(-2.85,4.465) A1_28(-2.85,5.065) A1_29(-2.85,5.665) A1_30(-2.85,6.265) A1_31(-2.85,6.865) A1_32(-2.85,7.465) A1_33(-2.85,8.065) A1_34(-2.85,8.665) A1_35(-2.85,9.265) A1_36(-2.85,9.865) A1_37(-2.85,10.465) A1_38(-2.85,11.065) A1_39(-2.85,11.665) A1_40(-2.85,12.265) B1_1(2.85,-11.135) B1_2(2.85,-10.535) B1_3(2.85,-9.935) B1_4(2.85,-9.335) B1_5(2.85,-8.735) B1_6(2.85,-8.135) B1_7(2.85,-7.535) B1_8(2.85,-6.935) B1_9(2.85,-6.335) B1_10(2.85,-5.735) B1_11(2.85,-5.135) B1_12(2.85,-4.535) B1_13(2.85,-3.935) B1_14(2.85,-3.335) B1_15(2.85,-2.735) B1_16(2.85,-2.135) B1_17(2.85,-1.535) B1_18(2.85,-0.935) B1_19(2.85,-0.335) B1_20(2.85,0.265) B1_21(2.85,0.865) B1_22(2.85,1.465) B1_23(2.85,2.065) B1_24(2.85,2.665) B1_25(2.85,3.265) B1_26(2.85,3.865) B1_27(2.85,4.465) B1_28(2.85,5.065) B1_29(2.85,5.665) B1_30(2.85,6.265) B1_31(2.85,6.865) B1_32(2.85,7.465) B1_33(2.85,8.065) B1_34(2.85,8.665) B1_35(2.85,9.265) B1_36(2.85,9.865) B1_37(2.85,10.465) B1_38(2.85,11.065) B1_39(2.85,11.665) B1_40(2.85,12.265)
  round 1.1 hole 1.1: ZH-C1(-1.8,-13.535)
  round 0.7 hole 0.7: ZH-C2(-1.8,14.665)
Top Overlay:
  lines w0.254: -2.8,-11.935 -2.8,-13.735 -1.8,-14.735 2.8,-14.735 2.8,-11.935 ; -2.8,13.065 -2.8,15.865 2.8,15.865 2.8,13.065
  text "B40" at 4.013,13.013 h10
  text "A40" at -2.819,12.893 h10
  text "A1" at -2.8,-14.735 h10
  text "B1" at 4.013,-14.726 h10

## HDR1X6 [mm] "Connector; Header; 6 Position"
pads (6):
  rect 1.5x1.5 hole 0.9: 1(0,0)
  round 1.5 hole 0.9: 2(2.54,0) 3(5.08,0) 4(7.62,0) 5(10.16,0) 6(12.7,0)
Top Overlay:
  lines w0.2: -1.27,-1.27 13.97,-1.27 13.97,1.27 -1.27,1.27 -1.27,-1.27

## L0402 [mm]
pads (2):
  rect 0.6x0.6 smd: 1(-0.5,0) 2(0.5,0)
Top Overlay:
  lines w0.051: -0.038,-0.305 ccw(c-0.038,-0.229) -0.038,-0.152 ccw(c-0.038,-0.076) -0.038,0 ccw(c-0.038,0.076) -0.038,0.152 ccw(c-0.038,0.229) -0.038,0.305
  lines w0.15: -1.05,-0.55 -0.2,-0.55 0.2,-0.55 1.05,-0.55 ; -1.05,0.55 -0.2,0.55 0.2,0.55 1.05,0.55

## L0603 [mil]
pads (2):
  rect 30x30 smd: 1(-27.5,0) 2(27.5,0)
Top Overlay:
  lines w2: 0,-16 ccw(c0,-12) 0,-8 ccw(c0,-4) 0,0 ccw(c0,4) 0,8 ccw(c0,12) 0,16
  lines w7: -50,-25 50,-25 ; -50,25 50,25

## L0603_2 [mil]
pads (2):
  rect 30x30 smd: 1(-27.5,0) 2(27.5,0)
Top Overlay:
  lines w2: 0,-16 ccw(c0,-12) 0,-8 ccw(c0,-4) 0,0 ccw(c0,4) 0,8 ccw(c0,12) 0,16
  lines w7: -50,-25 50,-25 ; -50,25 50,25
Mechanical 14:
  text "2" at 11.2,-32.5 h28
  text "1" at 11.2,32.5 h28